# EAGLE library part SAMACSYS_PARTS_ATTINY1604-SSN (library ServoFaderTB6612.V.1.0)
8-bit Microcontrollers - MCU 20MHz, 16KB, SOIC14, Ind 105C, Green, Tube Source: Datasheet <https://datasheet.datasheetarchive.com/originals/distributors/Datasheets_SAMA/eaab196c485c39f061614dd847a70670.pdf>
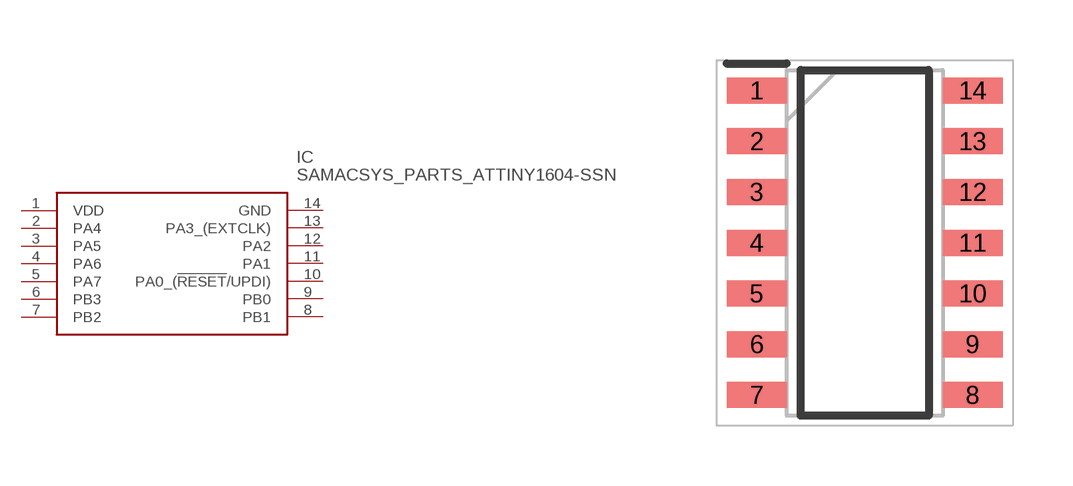
[diagram p1: symbol with the pads of SAMACSYS_PARTS_SOIC127P600X175-14N; footprint SAMACSYS_PARTS_SOIC127P600X175-14N]

Designator prefix IC

## SAMACSYS_PARTS_ATTINY1604-SSN (DESCRIPTION: 8-bit Microcontrollers - MCU 20MHz, 16KB, SOIC14, Ind 105C, Green, Tube; HEIGHT: 1.75mm; MANUFACTURER_NAME: Microchip; MANUFACTURER_PART_NUMBER: ATTINY1604-SSN; MOUSER_PART_NUMBER: 556-ATTINY1604-SSN; MOUSER_PRICE-STOCK: https://www.mouser.co.uk/ProductDetail/Microchip-Technology-Atmel/ATTINY1604-SSN?qs=T3oQrply3y8tu5s3g%2F7NqA%3D%3D)  [SAMACSYS_PARTS_SOIC127P600X175-14N]
1  VDD
2  PA4
3  PA5
4  PA6
5  PA7
6  PB3
7  PB2
8  PB1
9  PB0
10  PA0_(!RESET!/UPDI)
11  PA1
12  PA2
13  PA3_(EXTCLK)
14  GND

## Footprint SAMACSYS_PARTS_SOIC127P600X175-14N (pad centres in mm)
14 Lead Small Outline (SL) Narrow SOIC
smd 1.5 x 0.65: 1 -2.7,3.81; 2 -2.7,2.54; 3 -2.7,1.27; 4 -2.7,0; 5 -2.7,-1.27; 6 -2.7,-2.54; 7 -2.7,-3.81; 8 2.7,-3.81; 9 2.7,-2.54; 10 2.7,-1.27; 11 2.7,0; 12 2.7,1.27; 13 2.7,2.54; 14 2.7,3.81